# Altium footprint library 104JT025.PcbLib: 1 footprints
Each footprint in its own frame and in the unit in brackets; x right, y up, seen from the top. Pads: shape width x height; smd on the part's side, far side on the other; paste and mask are expansions set on the pad; w line width, h text height; cw(c..) or ccw(c..) is an arc to the next point about the centre after c.
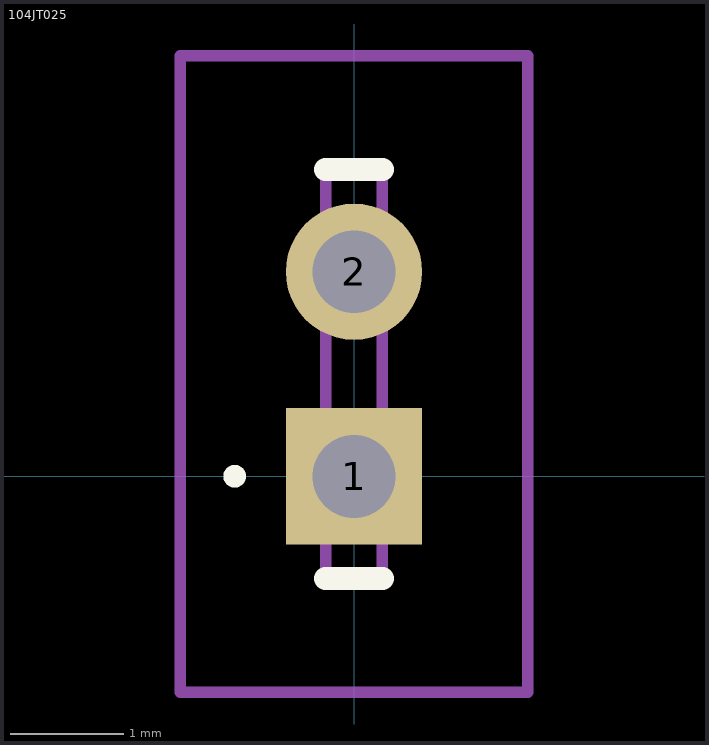
[diagram p0: the footprint, top view; thin cyan lines are the x and y axes]

## 104JT025 [mm]
pads (2):
  rect 1.2x1.2 hole 0.73: 1(0,0)
  round 1.2 hole 0.73: 2(0,1.8)
Top Overlay:
  lines w0.1: -1.1,0 cw(c-1.05,0) -1,0 ; -1.1,0 -1.1,0 ; -1.1,0 ccw(c-1.05,0) -1,0 ; -1,0 -1,0
  lines w0.2: -0.25,-0.9 0.25,-0.9 ; -0.25,2.7 0.25,2.7
Mechanical 15:
  lines w0.1: -0.25,-0.9 0.25,-0.9 0.25,2.7 -0.25,2.7 -0.25,-0.9
Mechanical 20:
  lines w0.1: -1.53,-1.9 1.53,-1.9 1.53,3.7 -1.53,3.7 -1.53,-1.9